# EAGLE library part THERMOCOUPLE-BOARD_HEADER-1X6 (library Thermocouple-board)
PIN HEADER
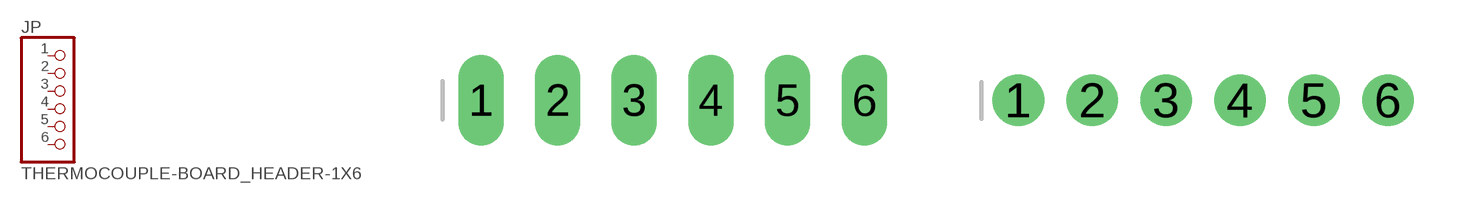
[diagram p3: symbol with the pads of THERMOCOUPLE-BOARD_1X06_OVAL; footprints THERMOCOUPLE-BOARD_1X06_OVAL, THERMOCOUPLE-BOARD_1X06_ROUND_70]

Designator prefix JP

## THERMOCOUPLE-BOARD_HEADER-1X6  [THERMOCOUPLE-BOARD_1X06_OVAL]
1  1  pas
2  2  pas
3  3  pas
4  4  pas
5  5  pas
6  6  pas

## THERMOCOUPLE-BOARD_HEADER-1X670MIL  [THERMOCOUPLE-BOARD_1X06_ROUND_70]
Pads as for THERMOCOUPLE-BOARD_1X06_OVAL

## THERMOCOUPLE-BOARD_HEADER-1X676MIL  [THERMOCOUPLE-BOARD_1X06_ROUND_76]
Pads as for THERMOCOUPLE-BOARD_1X06_OVAL

## THERMOCOUPLE-BOARD_HEADER-1X6ROUND  [THERMOCOUPLE-BOARD_1X06_ROUND]
Pads as for THERMOCOUPLE-BOARD_1X06_OVAL

## THERMOCOUPLE-BOARD_HEADER-1X6SMT  [THERMOCOUPLE-BOARD_1X06_SMT]
Pads as for THERMOCOUPLE-BOARD_1X06_OVAL

## Footprint THERMOCOUPLE-BOARD_1X06_OVAL (pad centres in mm)
PIN HEADER
drill 1 long: 1 -6.35,0; 2 -3.81,0; 3 -1.27,0; 4 1.27,0; 5 3.81,0; 6 6.35,0

## Footprint THERMOCOUPLE-BOARD_1X06_ROUND_70 (pad centres in mm)
drill 1 pad 1.778: 1 -6.35,0; 2 -3.81,0; 3 -1.27,0; 4 1.27,0; 5 3.81,0; 6 6.35,0

## Footprint THERMOCOUPLE-BOARD_1X06_ROUND_76 (pad centres in mm)
drill 1 pad 1.93: 1 -6.35,0; 2 -3.81,0; 3 -1.27,0; 4 1.27,0; 5 3.81,0; 6 6.35,0

## Footprint THERMOCOUPLE-BOARD_1X06_ROUND (pad centres in mm)
PIN HEADER
drill 1 pad 1.676: 1 -6.35,0; 2 -3.81,0; 3 -1.27,0; 4 1.27,0; 5 3.81,0; 6 6.35,0

## Footprint THERMOCOUPLE-BOARD_1X06_SMT (pad centres in mm)
Pin Headers 6 Pin, 0.1"/2.54mm pitch, SMT
smd 1 x 3.5: 1 -6.35,1.27; 2 -3.81,-1.27; 3 -1.27,1.27; 4 1.27,-1.27; 5 3.81,1.27; 6 6.35,-1.27